# Altium footprint library RH-25 Vishay.PcbLib: 1 footprints
Each footprint in its own frame and in the unit in brackets; x right, y up, seen from the top. Pads: shape width x height; smd on the part's side, far side on the other; paste and mask are expansions set on the pad; w line width, h text height; cw(c..) or ccw(c..) is an arc to the next point about the centre after c.
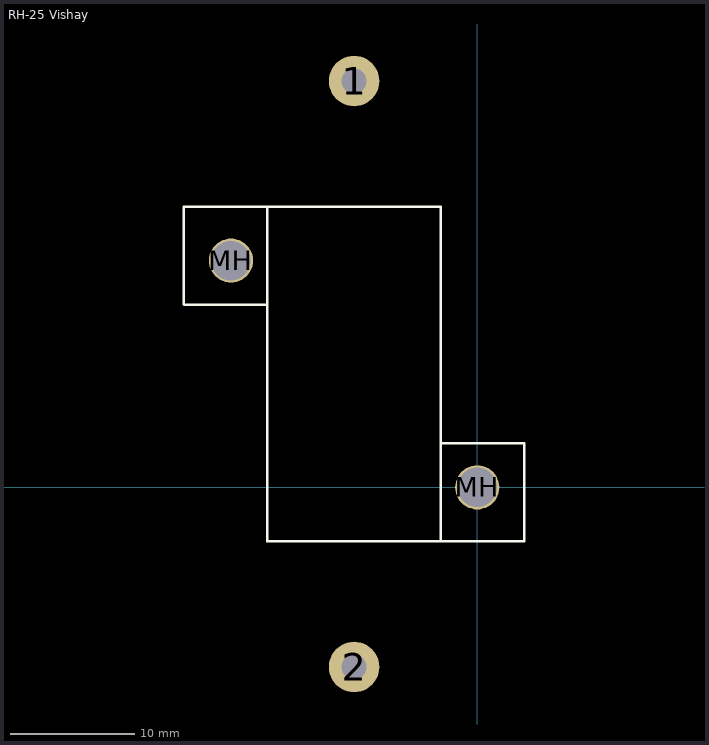
[diagram p0: the footprint, top view; thin cyan lines are the x and y axes]

## RH-25 Vishay [mil]
height 546
pads (4):
  round 160 hole 80: 1(-390.5,1288.5) 2(-390.5,-569.5)
  round 140 hole 125: MH(-781,719) MH(0,0)
TopOverlay:
  lines w8: -930.5,580.21 -930.5,605.65 -930.5,799.31 -930.5,890.24 ; -930.24,890.5 -898.1,890.5 -115,890.5 -115,799.31 -115,102.73 -115,-169.44 ; -929.62,579.33 -666,579.33 ; -666,886.9 -666,605.65 -666,-87.93 -666,-171.4 -665.9,-171.5 -627.12,-171.5 101.73,-171.5 148.9,-171.5 148.9,-95.53 ; -114.09,139.67 -99.44,139.67 101.73,139.67 148.8,139.67 149,139.47 149,108.74 149,-95.43